# Altium footprint library PcbLib.PcbLib: 43 footprints (part 3 of 3)
Each footprint in its own frame and in the unit in brackets; x right, y up, seen from the top. Pads: shape width x height; smd on the part's side, far side on the other; paste and mask are expansions set on the pad; w line width, h text height; cw(c..) or ccw(c..) is an arc to the next point about the centre after c.
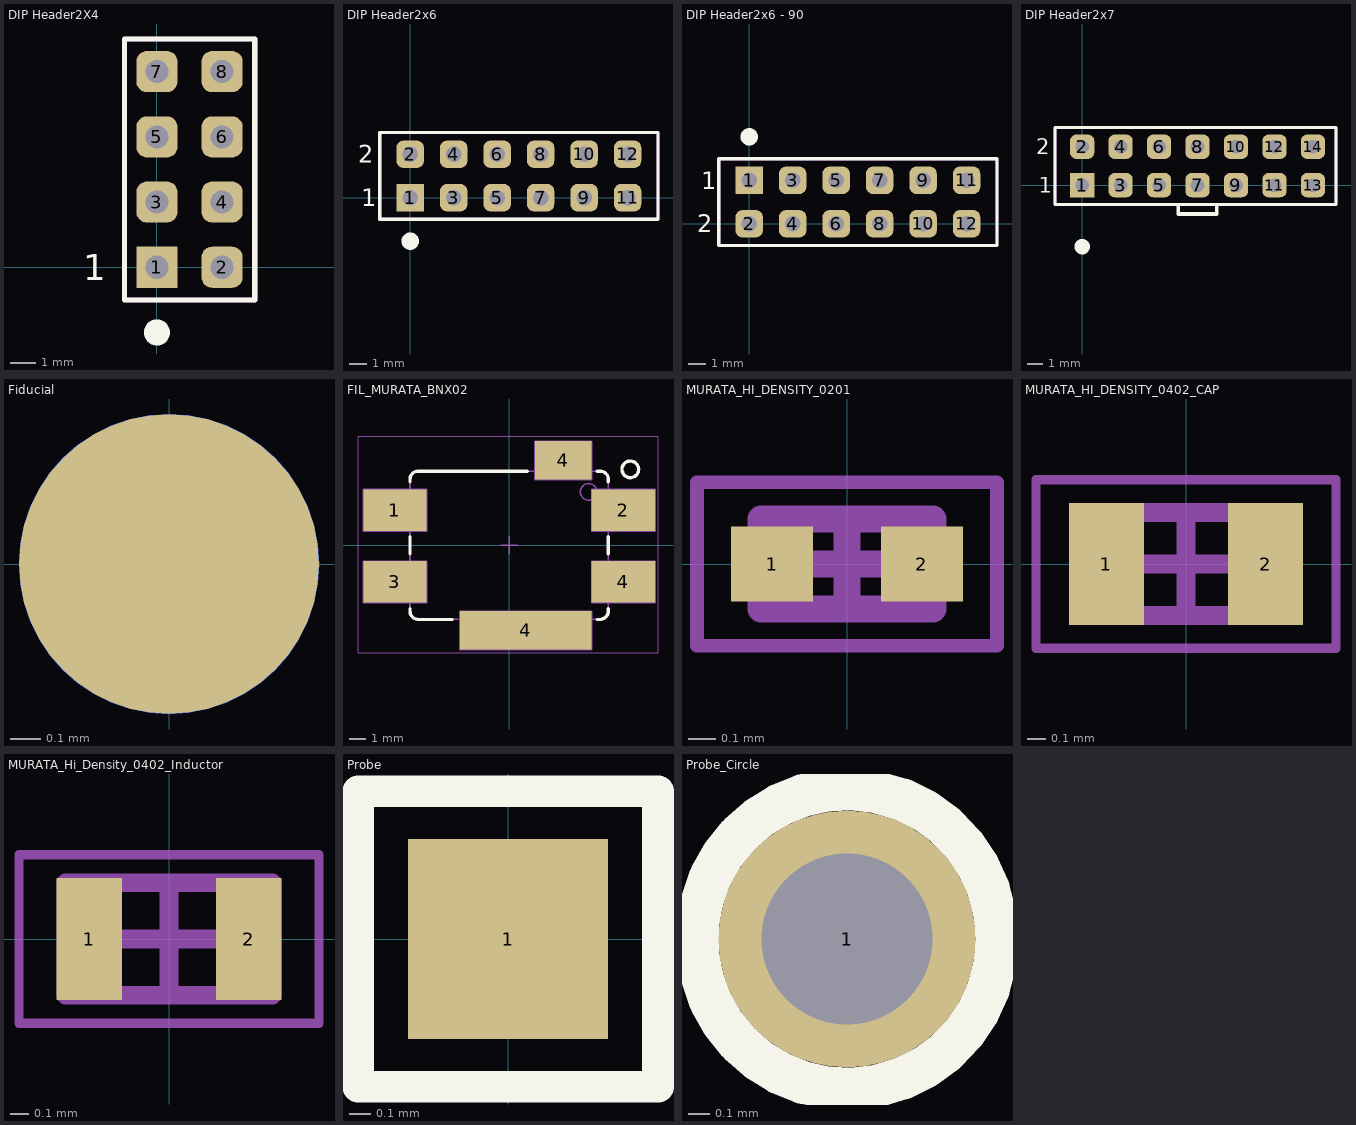
[diagram p2: the footprints below, top view; thin cyan lines are the x and y axes]

## DIP Header2X4 [mm]
pads (8):
  rect 1.6x1.6 hole 0.9: 1(0,0)
  rrect50% 1.6x1.6 hole 0.9: 2(2.54,0) 3(0,2.54) 4(2.54,2.54) 5(0,5.08) 6(2.54,5.08) 7(0,7.62) 8(2.54,7.62)
Top Overlay:
  circle w0.508: c0,-2.54 r0.254
  lines w0.2: -1.27,-1.27 -1.27,8.89 3.81,8.89 3.81,-1.27 -1.27,-1.27
  text "1" at -2.87,-0.508 h1.02
Bottom Overlay:
  circle w0.508: c0,-2.54 r0.254
  lines w0.2: -1.27,-1.27 -1.27,8.89 3.81,8.89 3.81,-1.27 -1.27,-1.27
  text "1" at -2.54,-0.508 h1.02
Mechanical 13:
  lines w0.2: -1.27,-1.27 3.81,-1.27 3.81,8.89 -1.27,8.89 -1.27,-1.27
3D body "TSW-104-23-L-D.step": height 8.38, standoff -2.92, extent -1.27,-1.27 3.81,8.89

## DIP Header2x6 [mm]
pads (12):
  rect 1.6x1.6 hole 0.9: 1(0,0)
  rrect50% 1.6x1.6 hole 0.9: 2(0,2.54) 3(2.54,0) 4(2.54,2.54) 5(5.08,0) 6(5.08,2.54) 7(7.62,0) 8(7.62,2.54) 9(10.16,0) 10(10.16,2.54) 11(12.7,0) 12(12.7,2.54)
Top Overlay:
  circle w0.508: c0,-2.54 r0.254
  lines w0.2: -1.778,-1.27 -1.778,3.81 14.478,3.81 14.478,-1.27 -1.778,-1.27
  text "1" at -2.87,-0.508 h1.02
  text "2" at -3.048,2.032 h1.02
Bottom Overlay:
  circle w0.508: c0,-2.54 r0.254
  lines w0.2: -1.778,-1.27 -1.778,3.81 14.478,3.81 14.478,-1.27 -1.778,-1.27
  text "2" at -2.362,2.032 h1.02
  text "1" at -2.54,-0.508 h1.02
Mechanical 13:
  lines w0.2: -1.778,-1.27 14.478,-1.27 14.478,3.81 -1.778,3.81 -1.778,-1.27
3D body "DS1023-2x6SF11.stp": height 8.5, standoff -3, extent -1.651,-1.23 14.389,3.77

## DIP Header2x6 - 90 [mm]
pads (12):
  rect 1.6x1.6 hole 0.9: 1(0,2.54)
  rrect50% 1.6x1.6 hole 0.9: 2(0,0) 3(2.54,2.54) 4(2.54,0) 5(5.08,2.54) 6(5.08,0) 7(7.62,2.54) 8(7.62,0) 9(10.16,2.54) 10(10.16,0) 11(12.7,2.54) 12(12.7,0)
Top Overlay:
  circle w0.508: c0,5.08 r0.254
  lines w0.2: -1.778,-1.27 14.478,-1.27 14.478,3.81 -1.778,3.81 -1.778,-1.27
  text "2" at -3.048,-0.508 h1.02
  text "1" at -2.794,2.032 h1.02
Bottom Overlay:
  circle w0.508: c0,5.08 r0.254
  lines w0.2: -1.778,-1.27 14.478,-1.27 14.478,3.81 -1.778,3.81 -1.778,-1.27
  text "1" at -2.54,2.032 h1.02
  text "2" at -2.286,-0.508 h1.02
Mechanical 13:
  lines w0.2: -1.778,-1.27 -1.778,3.81 14.478,3.81 14.478,-1.27 -1.778,-1.27
3D body "DS1024-2x6RF1.stp": height 5, standoff -3.5, extent -1.42,-0.254 14.12,12.646

## DIP Header2x7 [mm]
pads (14):
  rect 1.6x1.6 hole 0.9: 1(0,0)
  rrect50% 1.6x1.6 hole 0.9: 2(0,2.54) 3(2.54,0) 4(2.54,2.54) 5(5.08,0) 6(5.08,2.54) 7(7.62,0) 8(7.62,2.54) 9(10.16,0) 10(10.16,2.54) 11(12.7,0) 12(12.7,2.54) 13(15.24,0) 14(15.24,2.54)
Top Overlay:
  circle w0.508: c0,-4.064 r0.254
  lines w0.2: -1.778,-1.27 -1.778,3.81 16.764,3.81 16.764,-1.27 -1.778,-1.27
  lines w0.254: 6.35,-1.321 6.35,-1.905 8.89,-1.905 8.89,-1.321
  text "1" at -2.87,-0.508 h1.02
  text "2" at -3.048,2.032 h1.02
Bottom Overlay:
  circle w0.508: c0,-4.064 r0.254
  lines w0.2: -1.778,-1.27 -1.778,3.81 16.764,3.81 16.764,-1.27 -1.778,-1.27
  lines w0.254: 6.35,-1.321 6.35,-1.905 8.89,-1.905 8.89,-1.321
  text "2" at -2.362,2.032 h1.02
  text "1" at -2.54,-0.508 h1.02
Mechanical 13:
  lines w0.2: -1.778,-1.27 16.764,-1.27 16.764,3.81 -1.778,3.81 -1.778,-1.27
3D body "DS1013-14SSiB.stp": height 2.85, standoff -9.55, extent -5.22,-3.13 20.46,5.97

## Fiducial [mm]
pads (2):
  round 1 smd mask+0.5: ""(0,0)
  round 1 smd far side mask+0.5: ""(0,0)

## FIL_MURATA_BNX02 [mm] "Block Type EMIFIL LC Combined Type, BNX02* Series"
height 3.3
pads (6):
  rect 3.8x2.5 smd: 1(-6.85,2.1) 2(6.85,2.1) 3(-6.85,-2.2) 4(6.85,-2.2)
  rect 7.9x2.3 smd: 4(1,-5.1)
  rect 3.4x2.3 smd: 4(3.25,5.1)
Top Overlay:
  circle w0.2: c7.268,4.554 r0.5
  lines w0.2: -5.95,-3.8 -5.95,-3.95 ccw(c-5.45,-3.95) -5.45,-4.45 -3.42,-4.45 ; -5.95,-0.5 -5.95,0.5 ; -5.95,3.8 -5.95,3.95 cw(c-5.45,3.95) -5.45,4.45 1.08,4.45 ; 5.28,-4.45 5.45,-4.45 ccw(c5.45,-3.95) 5.95,-3.95 5.95,-3.8 ; 5.28,4.45 5.45,4.45 cw(c5.45,3.95) 5.95,3.95 5.95,3.8 ; 5.95,-0.5 5.95,0.5
Mechanical 8:
  lines w0.1: -7.35,-2.2 -6.85,-2.2 ; -7.35,2.1 -6.85,2.1 ; -6.85,-2.7 -6.85,-2.2 ; -6.85,-1.7 -6.85,-2.2 ; -6.85,1.6 -6.85,2.1 ; -6.85,2.6 -6.85,2.1 ; -6.35,-2.2 -6.85,-2.2 ; -6.35,2.1 -6.85,2.1 ; -0.5,0 0,0 ; 0,-0.5 0,0 ; 0,0.5 0,0 ; 0.5,-5.1 1,-5.1 ; 0.5,0 0,0 ; 1,-5.6 1,-5.1 ; 1,-4.6 1,-5.1 ; 1.5,-5.1 1,-5.1 ; 2.75,5.1 3.25,5.1 ; 3.25,4.6 3.25,5.1 ; 3.25,5.6 3.25,5.1 ; 3.75,5.1 3.25,5.1 ; 6.35,-2.2 6.85,-2.2 ; 6.35,2.1 6.85,2.1 ; 6.85,-2.7 6.85,-2.2 ; 6.85,-1.7 6.85,-2.2 ; 6.85,1.6 6.85,2.1 ; 6.85,2.6 6.85,2.1 ; 7.35,-2.2 6.85,-2.2 ; 7.35,2.1 6.85,2.1 ; -8.75,-3.45 -4.95,-3.45 -4.95,-0.95 -8.75,-0.95 -8.75,-3.45 ; -8.75,0.85 -8.75,3.35 -4.95,3.35 -4.95,0.85 -8.75,0.85 ; -2.95,-6.25 4.95,-6.25 4.95,-3.95 -2.95,-3.95 -2.95,-6.25 ; 1.55,3.95 1.55,6.25 4.95,6.25 4.95,3.95 1.55,3.95 ; 4.95,-3.45 4.95,-0.95 8.75,-0.95 8.75,-3.45 4.95,-3.45 ; 4.95,0.85 8.75,0.85 8.75,3.35 4.95,3.35 4.95,0.85
Mechanical 14:
  circle w0.1: c4.768,3.204 r0.5
  lines w0.1: -5.95,-2.75 -6.05,-2.75 -6.05,-1.45 -5.95,-1.45 ; -5.95,1.45 -6.05,1.45 -6.05,2.75 -5.95,2.75 ; -2.5,-4.45 -2.5,-4.55 4.5,-4.55 4.5,-4.45 ; 2,4.45 2,4.55 4.5,4.55 4.5,4.45 ; 5.95,-2.75 6.05,-2.75 6.05,-1.45 5.95,-1.45 ; 5.95,1.45 6.05,1.45 6.05,2.75 5.95,2.75 ; -5.95,-3.95 ccw(c-5.45,-3.95) -5.45,-4.45 5.45,-4.45 ccw(c5.45,-3.95) 5.95,-3.95 5.95,3.95 ccw(c5.45,3.95) 5.45,4.45 -5.45,4.45 ccw(c-5.45,3.95) -5.95,3.95 -5.95,-3.95
Mechanical 15:
  lines w0.05: -9.07,-6.45 -9.07,6.55 8.93,6.55 8.93,-6.45 -9.07,-6.45
3D body "FIL_MURATA_BNX02.stp": height 3.1, standoff 0, extent -6.05,-4.55 6.05,4.55

## MURATA_HI_DENSITY_0201 [mm]
height 0.33
pads (2):
  rect 0.3x0.274 smd: 1(-0.275,0) 2(0.275,0)
Top Assembly:
  lines w0.1: -0.315,-0.165 0.315,-0.165 0.315,0.165 -0.315,0.165 -0.315,-0.165
Top Courtyard:
  lines w0.05: -0.55,-0.3 0.55,-0.3 0.55,0.3 -0.55,0.3 -0.55,-0.3
  lines w0.1: -0.165,0 0.165,0 ; 0,-0.165 0,0.165
3D body "MURATA_HI_DENSITY_0201.step": height 0.33, standoff 0, extent -0.315,-0.165 0.315,0.165

## MURATA_HI_DENSITY_0402_CAP [mm]
height 0.55
pads (2):
  rect 0.4x0.65 smd: 1(-0.425,0) 2(0.425,0)
Top Assembly:
  lines w0.1: -0.525,-0.275 -0.525,0.275 0.525,0.275 0.525,-0.275 -0.525,-0.275
Top Courtyard:
  lines w0.05: -0.8,-0.45 -0.8,0.45 0.8,0.45 0.8,-0.45 -0.8,-0.45
  lines w0.1: -0.275,0 0.275,0 ; 0,-0.275 0,0.275
3D body "MURATA_HI_DENSITY_0402_CAP.step": height 0.55, standoff 0, extent -0.525,-0.275 0.525,0.275

## MURATA_Hi_Density_0402_Inductor [mm]
height 0.6
pads (2):
  rect 0.35x0.65 smd: 1(-0.425,0) 2(0.425,0)
Top Assembly:
  lines w0.1: -0.55,-0.3 0.55,-0.3 0.55,0.3 -0.55,0.3 -0.55,-0.3
Top Courtyard:
  lines w0.05: -0.8,-0.45 0.8,-0.45 0.8,0.45 -0.8,0.45 -0.8,-0.45
  lines w0.1: -0.3,0 0.3,0 ; 0,-0.3 0,0.3
3D body "MURATA_Hi_Density_0402.step": height 0.6, standoff 0, extent -0.55,-0.3 0.55,0.3

## Probe [mm]
pads (1):
  rect 0.95x0.95 smd: 1(0,0)
Top Overlay:
  lines w0.15: -0.711,-0.7 -0.711,0.7 0.711,0.7 0.711,-0.7 -0.711,-0.7

## Probe_Circle [mm]
pads (1):
  round 1.2 hole 0.8 mask+0.05: 1(0,0)
Top Overlay:
  circle w0.2: c0,0 r0.7
Bottom Overlay:
  circle w0.2: c0,0 r0.7